# EAGLE library part OPENCM_9.04 (library OPENCM_9.04. RR Prof)
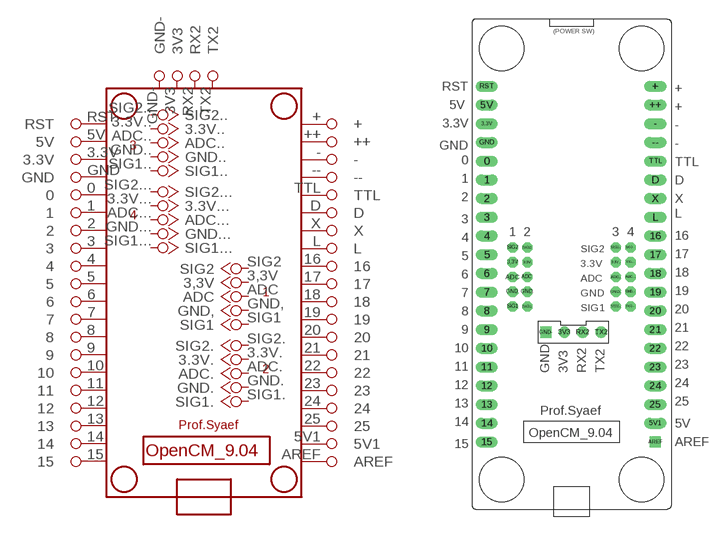
[diagram p0: symbol with the pads of OPENCM_9.04; footprint OPENCM_9.04]

Designator prefix -

## OPENCM_9.04  [OPENCM_9.04]
0  0
1  1
2  2
3  3
3,3V  3,3V
3.3V  3.3V
3.3V.  3.3V.
3.3V..  3.3V..
3.3V...  3.3V...
3V3  3V3
4  4
5  5
5V  5V
5V1  5V1
6  6
7  7
8  8
9  9
10  10
11  11
12  12
13  13
14  14
15  15
16  16
17  17
18  18
19  19
20  20
21  21
22  22
23  23
24  24
25  25
+  +
++  ++
-  -
--  --
ADC  ADC
ADC.  ADC.
ADC..  ADC..
ADC...  ADC...
AREF  AREF
D  D
GND  GND
GND,  GND,
GND-  GND-
GND.  GND.
GND..  GND..
GND...  GND...
L  L
RST  RST
RX2  RX2
SIG1  SIG1
SIG1.  SIG1.
SIG1..  SIG1..
SIG1...  SIG1...
SIG2  SIG2
SIG2.  SIG2.
SIG2..  SIG2..
SIG2...  SIG2...
TTL  TTL
TX2  TX2
X  X

## Footprint OPENCM_9.04 (pad centres in mm)
drill 1 long: 0 0,-16.78; 1 0,-19.32; 2 0,-21.86; 3 0,-24.4; 3.3V 0,-11.7; 4 0,-26.94; 5 0,-29.48; 5V 0,-9.16; 5V1 22.86,-52.34; 6 0,-32.02; 7 0,-34.56; 8 0,-37.1; 9 0,-39.64; 10 0,-42.18; 11 0,-44.72; 12 0,-47.26; 13 0,-49.8; 14 0,-52.34; 15 0,-54.88; 16 22.86,-26.94; 17 22.86,-29.48; 18 22.86,-32.02; 19 22.86,-34.56; 20 22.86,-37.1; 21 22.86,-39.64; 22 22.86,-42.18; 23 22.86,-44.72; 24 22.86,-47.26; 25 22.86,-49.8; + 22.86,-6.62; ++ 22.86,-9.16; - 22.86,-11.7; -- 22.86,-14.24; D 22.86,-19.32; GND 0,-14.24; L 22.86,-24.4; RST 0,-6.62; TTL 22.86,-16.78; X 22.86,-21.86
drill 0.9 octagon: 3,3V 3.5,-30.5; 3.3V. 5.5,-30.5; 3.3V.. 17.5,-30.5; 3.3V... 19.5,-30.5; ADC 3.5,-32.5; ADC. 5.5,-32.5; ADC.. 17.5,-32.5; ADC... 19.5,-32.5; GND, 3.5,-34.5; GND. 5.5,-34.5; GND.. 17.5,-34.5; GND... 19.5,-34.5; SIG1 3.5,-36.5; SIG1. 5.5,-36.5; SIG1.. 17.5,-36.5; SIG1... 19.5,-36.5; SIG2 3.5,-28.5; SIG2. 5.5,-28.5; SIG2.. 17.5,-28.5; SIG2... 19.5,-28.5
drill 1: 3V3 10.5,-40; RX2 13,-40; TX2 15.5,-40
drill 1 square: AREF 22.86,-54.88; GND- 8,-40